# Altium footprint library SnapEDApcb.PcbLib: 1 footprints
Each footprint in its own frame and in the unit in brackets; x right, y up, seen from the top. Pads: shape width x height; smd on the part's side, far side on the other; paste and mask are expansions set on the pad; w line width, h text height; cw(c..) or ccw(c..) is an arc to the next point about the centre after c.
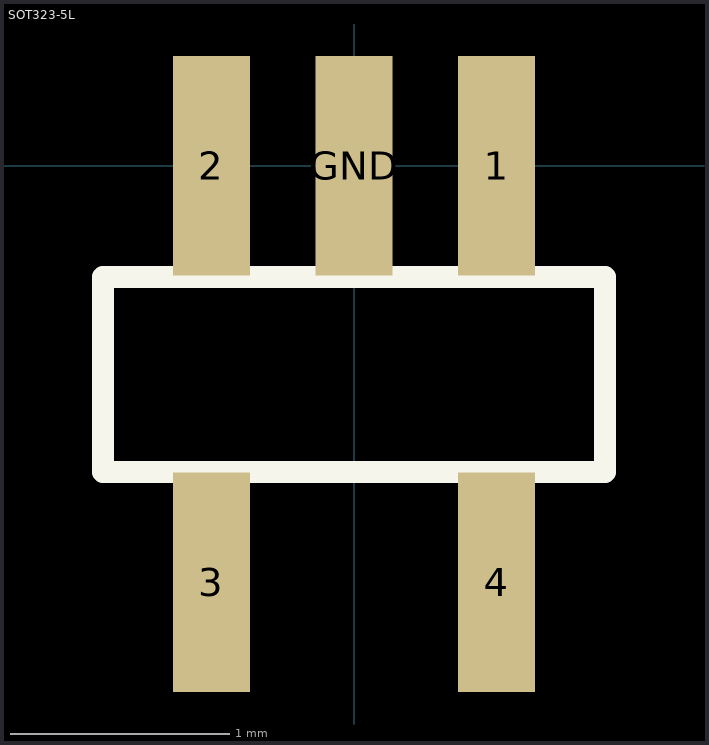
[diagram p0: the footprint, top view; thin cyan lines are the x and y axes]

## SOT323-5L [mm]
pads (5):
  rect 0.35x1 smd: 1(0.65,0) 2(-0.65,0) 3(-0.65,-1.9) 4(0.65,-1.9) GND(0,0)
Top Overlay:
  lines w0.1: -1.143,-1.397 -1.143,-0.508 1.143,-0.508 1.143,-1.397 -1.143,-1.397
3D body "SOT323-5L_STM.step": height 1.09, standoff 0, extent -1.105,-2.21 1.105,0.178